# Altium schematic symbol library SM02B-SRSS-TB_LF__SN_.SchLib: 1 symbol
Pins are listed as number, name and electrical type; pins without a type are passive.

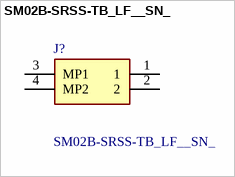
[diagram p0: symbol SM02B-SRSS-TB_LF__SN_]

## SM02B-SRSS-TB_LF__SN_
designator J?
SH Series 2 Position 1 mm Pitch Surface Mount Side Entry Shrouded Header; Manufacturer_Name: JST (JAPAN SOLDERLESS TERMINALS); Manufacturer_Part_Number: SM02B-SRSS-TB(LF)(SN); Geometry.Height: 2.95mm; Mouser Part Number: N/A; Mouser Price/Stock: https://www.mouser.co.uk/ProductDetail/JST-Commercial/SM02B-SRSS-TBLFSN?qs=IKkN%2F947nfBJBdlb%252BYi4ow%3D%3D; Datasheet Link: http://www.jst-mfg.com/product/pdf/eng/eSH.pdf
footprint SM02BSRSSTBLFSN
pins: 1, 2, 3 MP1, 4 MP2